# EAGLE library part IS25LP128F (library Calliope)
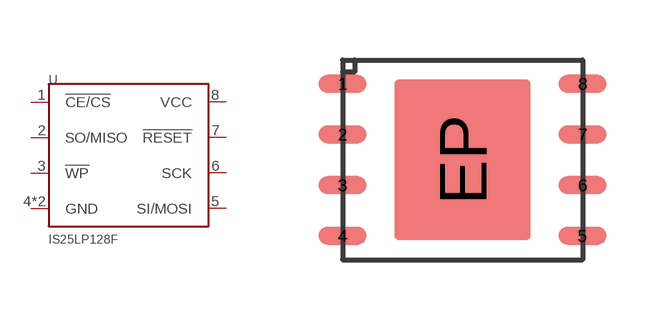
[diagram p1: symbol with the pads of VQFN8_6X5; footprint VQFN8_6X5]

Designator prefix -

## IS25LP128F  [VQFN8_6X5]
1  !CE/CS
2  SO/MISO
3  !WP
4  GND
5  SI/MOSI
6  SCK
7  !RESET
8  VCC
EP  GND

## Footprint VQFN8_6X5 (pad centres in mm)
smd 1.2 x 0.45: 1 -3,1.905; 2 -3,0.635; 3 -3,-0.635; 4 -3,-1.905; 5 3,-1.905; 6 3,-0.635; 7 3,0.635; 8 3,1.905
smd 3.4 x 4: EP 0,0